# Altium footprint library Tray2Mobo.PcbLib: 18 footprints (part 2 of 2)
Each footprint in its own frame and in the unit in brackets; x right, y up, seen from the top. Pads: shape width x height; smd on the part's side, far side on the other; paste and mask are expansions set on the pad; w line width, h text height; cw(c..) or ccw(c..) is an arc to the next point about the centre after c.
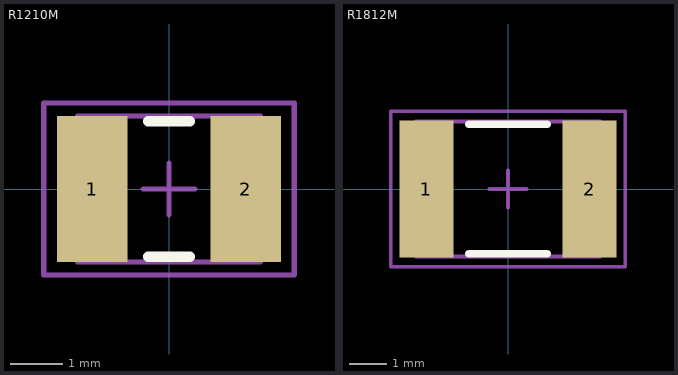
[diagram p1: the footprints below, top view; thin cyan lines are the x and y axes]

## R1210M [mm] "Chip Capacitor, 2-Leads, Body 3.2x2.5mm, IPC Medium Density"
height 1.5
pads (2):
  rect 1.35x2.8 smd: 1(-1.475,0) 2(1.475,0)
Top Overlay:
  lines w0.2: -0.4,-1.3 0.4,-1.3 ; -0.4,1.3 0.4,1.3
Mechanical 13:
  lines w0.1: -1.75,-1.4 1.75,-1.4 1.75,1.4 -1.75,1.4 -1.75,-1.4
Mechanical 15:
  lines w0.1: -0.5,0 0.5,0 ; 0,-0.5 0,0.5 ; -2.4,-1.65 2.4,-1.65 2.4,1.65 -2.4,1.65 -2.4,-1.65
3D body: height 1.5, standoff 0, extent -1.75,-1.4 1.75,1.4

## R1812M [mm]
height 2
pads (2):
  rect 1.45x3.65 smd: 1(-2.175,0) 2(2.175,0)
Top Overlay:
  lines w0.2: -1.05,-1.725 1.05,-1.725 ; -1.05,1.725 1.05,1.725
Mechanical 13:
  lines w0.1: -2.45,-1.8 2.45,-1.8 2.45,1.8 -2.45,1.8 -2.45,-1.8
Mechanical 15:
  lines w0.1: -0.5,0 0.5,0 ; 0,-0.5 0,0.5 ; -3.125,-2.075 3.125,-2.075 3.125,2.075 -3.125,2.075 -3.125,-2.075
3D body: height 2, standoff 0, extent -2.45,-1.8 2.45,1.8